# Altium footprint library HANDS-FREEE-PcbLib-V1.9.PcbLib: 236 footprints (part 10 of 16)
Each footprint in its own frame and in the unit in brackets; x right, y up, seen from the top. Pads: shape width x height; smd on the part's side, far side on the other; paste and mask are expansions set on the pad; w line width, h text height; cw(c..) or ccw(c..) is an arc to the next point about the centre after c.
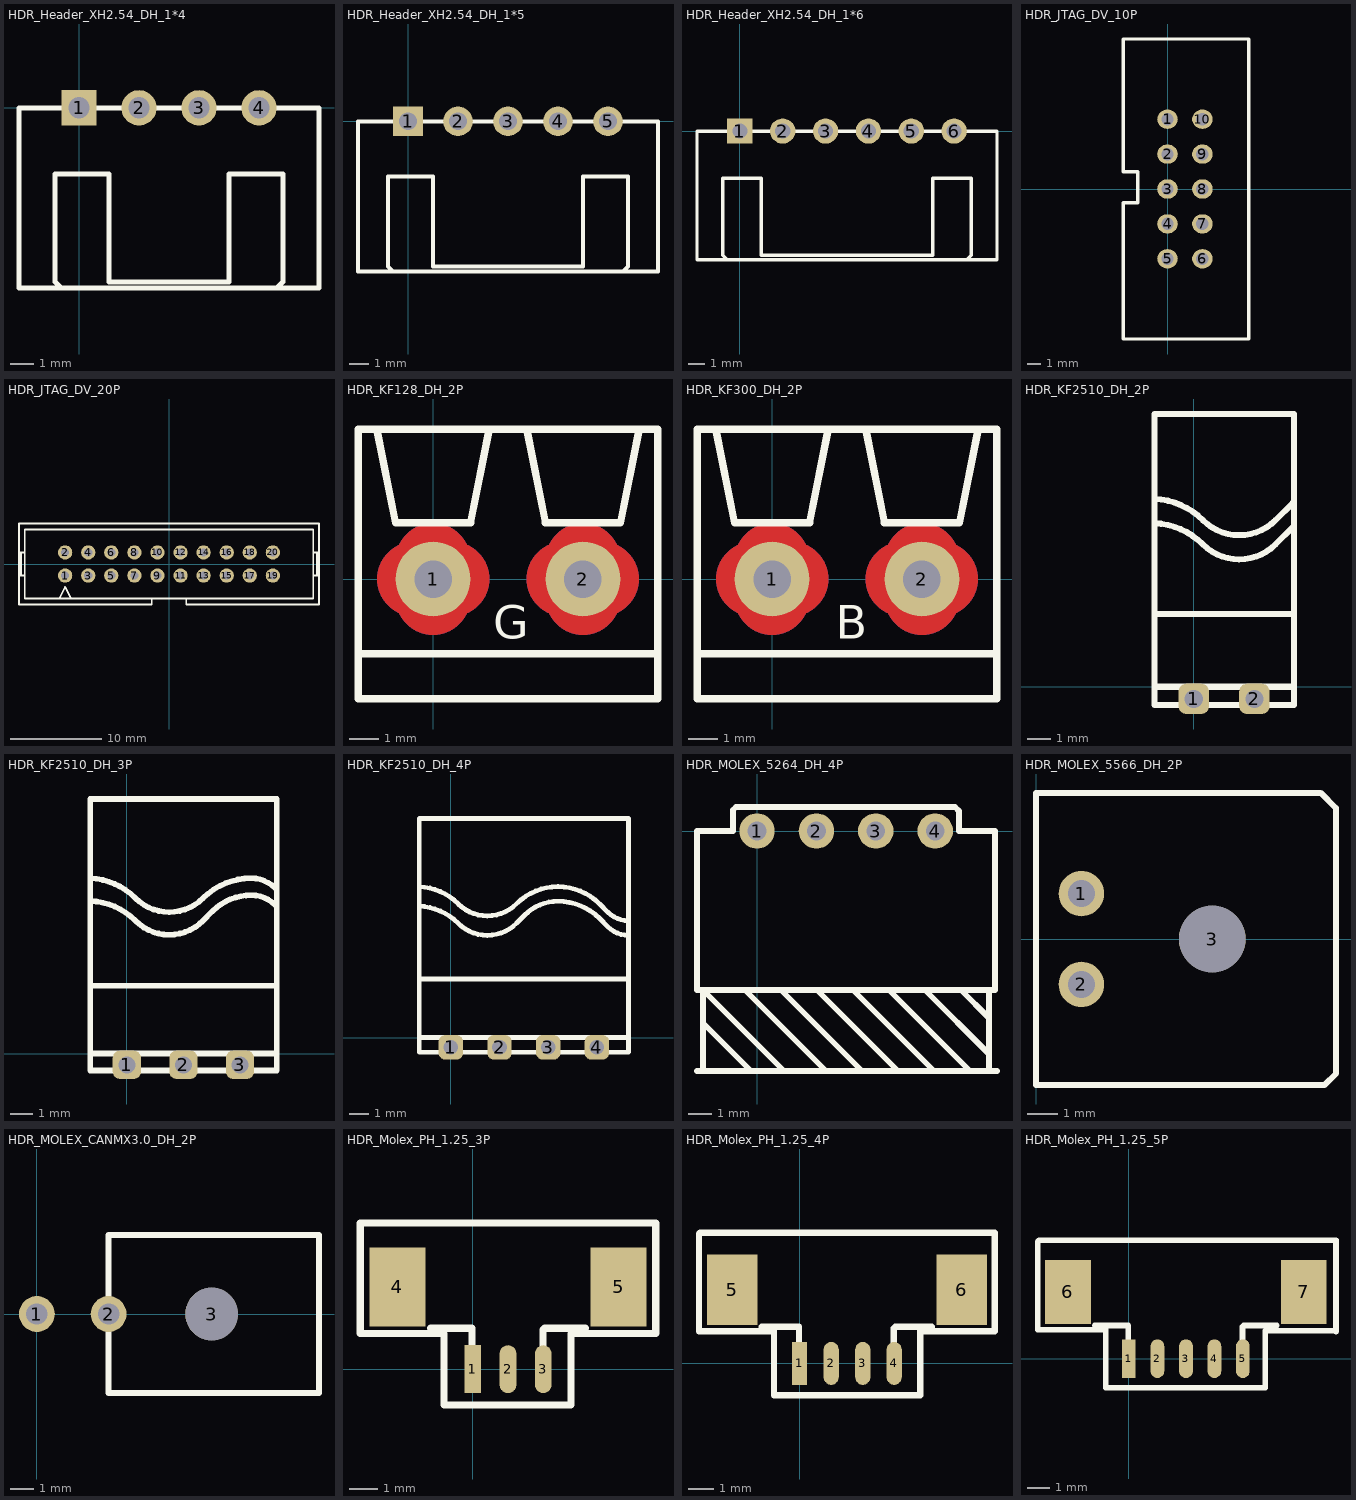
[diagram p9: the footprints below, top view; thin cyan lines are the x and y axes]

## HDR_Header_XH2.54_DH_1*4 [mm] "Connector; Header; 2 Position; Right Angle"
pads (4):
  rect 1.5x1.5 hole 0.9: 1(0,0)
  round 1.5 hole 0.9: 2(2.54,0) 3(5.08,0) 4(7.62,0)
Top Overlay:
  lines w0.203: -0.762,-7.62 -1.016,-7.366 -1.016,-2.794 1.27,-2.794 1.27,-7.366 6.35,-7.366 6.35,-2.794 8.636,-2.794 8.636,-7.366 8.382,-7.62 ; -2.54,-7.62 10.16,-7.62 10.16,-5.08 10.16,-2.54 10.16,0 -2.54,0 -2.54,-7.62

## HDR_Header_XH2.54_DH_1*5 [mm] "Connector; Header; 2 Position; Right Angle"
pads (5):
  rect 1.5x1.5 hole 0.9: 1(0,0)
  round 1.5 hole 0.9: 2(2.54,0) 3(5.08,0) 4(7.62,0) 5(10.16,0)
Top Overlay:
  lines w0.203: -0.762,-7.62 -1.016,-7.366 -1.016,-2.794 1.27,-2.794 1.27,-7.366 8.89,-7.366 8.89,-2.794 11.176,-2.794 11.176,-7.366 10.922,-7.62 ; -2.54,-7.62 -2.54,0 12.7,0 12.7,-2.54 12.7,-5.08 12.7,-7.62 -2.54,-7.62

## HDR_Header_XH2.54_DH_1*6 [mm] "Connector; Header; 2 Position; Right Angle"
pads (6):
  rect 1.5x1.5 hole 0.9: 1(0,0)
  round 1.5 hole 0.9: 2(2.54,0) 3(5.08,0) 4(7.62,0) 5(10.16,0) 6(12.7,0)
Top Overlay:
  lines w0.203: -0.762,-7.62 -1.016,-7.366 -1.016,-2.794 1.27,-2.794 1.27,-7.366 11.43,-7.366 11.43,-2.794 13.716,-2.794 13.716,-7.366 13.462,-7.62 ; -2.54,-7.62 -2.54,0 15.24,0 15.24,-2.54 15.24,-5.08 15.24,-7.62 -2.54,-7.62

## HDR_JTAG_DV_10P [mil]
pads (10):
  oval 59x55 hole 35.4: 1(0,200) 2(0,100) 3(0,0) 4(0,-100) 5(0,-200) 6(100,-200) 7(100,-100) 8(100,0) 9(100,100) 10(100,200)
Top Overlay:
  lines w10: -127,-40 -127,-430 233,-430 233,430 190,430 -80,430 -127,430 -127,50 ; -126,-40 -96,-40 -86,-40 -86,0 -86,50 -96,50 -126,50 ; -80,-430 190,-430

## HDR_JTAG_DV_20P [mil]
pads (20):
  round 62 hole 35: 1(-450,-50) 2(-450,50) 3(-350,-50) 4(-350,50) 5(-250,-50) 6(-250,50) 7(-150,-50) 8(-150,50) 9(-50,-50) 10(-50,50) 11(50,-50) 12(50,50) 13(150,-50) 14(150,50) 15(250,-50) 16(250,50) 17(350,-50) 18(350,50) 19(450,-50) 20(450,50)
Top Overlay:
  lines w8: -650,-50 -625,-50 ; -650,50 -625,50 ; -641.67,-50 -641.67,50 ; -475,-150 -450,-100 -425,-150 ; -339.57,-175 -75,-175 -75,-150 ; -325,-175 -650,-175 -650,175 650,175 650,-175 325,-175 75,-175 75,-150 ; 625,-50 650,-50 ; 625,50 650,50 ; 641.67,-50 641.67,50 ; -75,-150 -625,-150 -625,150 625,150 625,-150 75,-150 ; -75,-150 75,-150

## HDR_KF128_DH_2P [mil]
pads (2):
  round 100 hole 50: 1(0,0) 2(200,0)
Top Layer:
  lines w100: -25,0 0,0 ; 0,-25 0,0 ; 0,25 0,0 ; 25,0 0,0 ; 175,0 200,0 ; 200,-25 200,0 ; 200,25 200,0 ; 225,0 200,0
Bottom Layer:
  lines w100: -25,0 0,0 ; 0,-25 0,0 ; 0,25 0,0 ; 25,0 0,0 ; 175,0 200,0 ; 200,-25 200,0 ; 200,25 200,0 ; 225,0 200,0
Top Overlay:
  lines w10: -100,-100 275,-100 300,-100 ; -75,200 -50,75 0,75 50,75 75,200 ; 125,200 150,75 200,75 250,75 275,200 ; -100,-160 -100,200 300,200 300,-160 -100,-160
  text "G" at 80,-80 h45
Bottom Solder:
  lines w100: -25,0 0,0 ; 0,-25 0,0 ; 0,25 0,0 ; 25,0 0,0 ; 175,0 200,0 ; 200,-25 200,0 ; 200,25 200,0 ; 225,0 200,0

## HDR_KF300_DH_2P [mil]
pads (2):
  round 100 hole 50: 1(0,0) 2(200,0)
Top Layer:
  lines w100: -25,0 0,0 ; 0,-25 0,0 ; 0,25 0,0 ; 25,0 0,0 ; 175,0 200,0 ; 200,-25 200,0 ; 200,25 200,0 ; 225,0 200,0
Bottom Layer:
  lines w100: -25,0 0,0 ; 0,-25 0,0 ; 0,25 0,0 ; 25,0 0,0 ; 175,0 200,0 ; 200,-25 200,0 ; 200,25 200,0 ; 225,0 200,0
Top Overlay:
  lines w10: -100,-100 275,-100 300,-100 ; -75,200 -50,75 0,75 50,75 75,200 ; 125,200 150,75 200,75 250,75 275,200 ; -100,-160 300,-160 300,200 -100,200 -100,-160
  text "B" at 85,-80 h45
Bottom Solder:
  lines w100: -25,0 0,0 ; 0,-25 0,0 ; 0,25 0,0 ; 25,0 0,0 ; 175,0 200,0 ; 200,-25 200,0 ; 200,25 200,0 ; 225,0 200,0

## HDR_KF2510_DH_2P [mil]
pads (2):
  rrect50% 50x50 hole 30: 1(0,-20) 2(100,-20)
Top Overlay:
  lines w10: -65,269.9 cw(c-70,149.29) 15.36,234.64 ccw(c74.85,294.14) 74.85,210 ccw(c74.85,294.85) 134.85,234.85 162.93,262.93 ; -65,309.9 cw(c-70,189.29) 15.36,274.64 ccw(c74.85,334.14) 74.85,250 ccw(c74.85,334.85) 134.85,274.85 162.93,302.93 ; -60,120 165,120 ; -65,0 -65,-30 165,-30 165,0 ; -65,0 165,0 ; -65,0 -65,450 -60,450 165,450 165,0

## HDR_KF2510_DH_3P [mil]
pads (3):
  rrect50% 50x50 hole 30: 1(0,-20) 2(100,-20) 3(200,-20)
Top Overlay:
  lines w10: -65,269.9 cw(c-70,149.29) 15.36,234.64 ccw(c74.85,294.14) 74.85,210 ccw(c74.85,294.85) 134.85,234.85 151.72,251.72 cw(c220,183.43) 220,280 cw(c220,219.64) 262.68,262.32 265,260 ; -65,309.9 cw(c-70,189.29) 15.36,274.64 ccw(c74.85,334.14) 74.85,250 ccw(c74.85,334.85) 134.85,274.85 cw(c219.71,190) 219.71,310 cw(c219.71,248.93) 262.89,292.11 265,290 ; -60,120 265,120 ; -65,0 -65,-30 265,-30 265,0 ; -65,0 265,0 ; -65,0 -65,450 -60,450 265,450 265,0

## HDR_KF2510_DH_4P [mil]
pads (4):
  rrect50% 50x50 hole 30: 1(0,-20) 2(100,-20) 3(200,-20) 4(300,-20)
Top Overlay:
  lines w10: -65,269.9 cw(c-70,149.29) 15.36,234.64 ccw(c74.85,294.14) 74.85,210 ccw(c74.85,294.85) 134.85,234.85 151.72,251.72 cw(c220,183.43) 220,280 ; -65,309.9 cw(c-70,189.29) 15.36,274.64 ccw(c74.85,334.14) 74.85,250 ccw(c74.85,334.85) 134.85,274.85 cw(c219.71,190) 219.71,310 220,310 cw(c220,189.29) 305.36,274.64 322.32,257.68 ccw(c365,300.36) 365,240 ; -60,120 365,120 ; 220.15,280 cw(c220.15,159.29) 305.5,244.64 322.47,227.68 ccw(c365.15,270.36) 365.15,210 ; -65,0 -65,450 -60,450 365,450 365,0 ; -65,0 365,0 ; -65,0 -65,-30 365,-30 365,0

## HDR_MOLEX_5264_DH_4P [mm]
pads (4):
  round 1.5 hole 0.8: 1(0,0) 2(2.515,0) 3(5.029,0) 4(7.544,0)
Top Overlay:
  lines w0.254: -2.54,-10.16 -2.286,-10.16 ; -2.286,-8.128 -0.254,-10.16 ; -0.508,-6.731 2.921,-10.16 ; 1.016,-6.731 4.445,-10.16 ; 1.143,-10.16 -2.286,-6.731 -2.286,-10.16 ; 2.54,-6.731 5.969,-10.16 ; 4.064,-6.731 7.493,-10.16 ; 5.588,-6.731 9.017,-10.16 ; 7.112,-6.731 9.804,-9.423 ; 8.636,-6.731 9.804,-7.899 ; 9.83,-6.731 9.83,-10.16 ; 10.16,-10.16 9.83,-10.16 ; -2.286,-10.16 9.83,-10.16 ; -2.54,-6.731 -2.54,0 -1.016,0 -1.016,0.889 -0.889,1.016 8.382,1.016 8.56,0.838 8.56,0 10.084,0 10.084,-6.731 -2.54,-6.731

## HDR_MOLEX_5566_DH_2P [mm]
pads (3):
  round 1.5 hole 0.9: 1(1.5,1.5) 2(1.5,-1.5)
  round 2.2 hole 2.2: 3(5.82,0)
Top Overlay:
  lines w0.2: 0,-4.826 0,4.826 9.398,4.826 9.906,4.318 9.906,-4.445 9.525,-4.826 0,-4.826

## HDR_MOLEX_CANMX3.0_DH_2P [mm]
pads (3):
  round 1.5 hole 0.9: 1(0,0) 2(3,0)
  round 2.2 hole 2.2: 3(7.315,0)
Top Overlay:
  lines w0.254: 3,-3.302 11.811,-3.302 11.811,3.302 3,3.302 3,-3.302

## HDR_Molex_PH_1.25_3P [mm]
pads (5):
  rect 0.6x1.7 smd: 1(0,0)
  oval 0.6x1.7 smd: 2(1.25,0) 3(2.5,0)
  rect 2x2.8 smd: 4(-2.667,2.921) 5(5.167,2.921)
Top Overlay:
  lines w0.254: -1.499,1.448 -0.051,1.448 ; -0.025,0.051 -0.025,1.448 ; 2.489,0 2.489,1.397 2.54,1.448 3.988,1.448 ; 3.48,1.27 3.48,-1.27 -1.016,-1.27 -1.016,1.27 -3.988,1.27 -3.988,5.182 6.488,5.182 6.488,1.27 3.516,1.27

## HDR_Molex_PH_1.25_4P [mm]
pads (6):
  rect 0.6x1.7 smd: 1(0,0)
  oval 0.6x1.7 smd: 2(1.25,0) 3(2.5,0) 4(3.745,0)
  rect 2x2.8 smd: 5(-2.667,2.921) 6(6.417,2.921)
Top Overlay:
  lines w0.254: -1.499,1.448 -0.051,1.448 ; -1.016,-1.27 -1.016,1.27 -3.988,1.27 -3.988,5.131 -3.937,5.182 7.722,5.182 7.722,1.27 4.775,1.27 4.775,-1.27 -0.965,-1.27 -1.016,-1.219 ; -0.025,0.051 -0.025,1.448 ; 3.734,0 3.734,1.397 3.785,1.448 5.232,1.448

## HDR_Molex_PH_1.25_5P [mm]
pads (7):
  rect 0.6x1.7 smd: 1(0,0)
  oval 0.6x1.7 smd: 2(1.25,0) 3(2.5,0) 4(3.745,0) 5(4.989,0)
  rect 2x2.8 smd: 6(-2.667,2.921) 7(7.656,2.921)
Top Overlay:
  lines w0.254: -1.499,1.448 -0.051,1.448 ; -0.025,0.051 -0.025,1.448 ; 4.978,0 4.978,1.397 5.029,1.448 6.477,1.448 ; 8.941,1.219 5.969,1.219 5.969,-1.27 -1.016,-1.27 -1.016,1.27 -3.988,1.27 -3.988,5.131 -3.937,5.182 7.722,5.182 9.068,5.182 9.068,1.194